# Altium schematic symbol library Passives.SchLib: 3 symbols
Pins are listed as number, name and electrical type; pins without a type are passive.

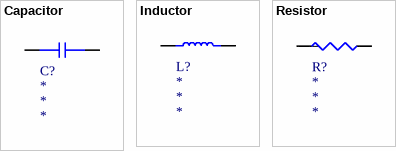
[diagram p0: symbols Capacitor to Resistor]

## Capacitor
designator C?
Reference: *; Max Voltage: *; Technology: *; ComponentLink1Description: Vendor; ComponentLink1URL: *; ComponentLink2Description: Datasheet; ComponentLink2URL: *; Package: *; Capacity: *; Tolerance: *
footprint 2512_Y
footprint 2010_Y
footprint 1210_Y
footprint 1206_Y
footprint 01005_Y
footprint 0805_Y
footprint 0603_Y
footprint 0402_Y
footprint 0201_Y
pins: A, B

## Inductor
designator L?
Reference: *; Max Voltage: *; Technology: *; ComponentLink1Description: Vendor; ComponentLink1URL: *; ComponentLink2Description: Datasheet; ComponentLink2URL: *; Package: *; Capacity: *; Tolerance: *
footprint 01005_G
footprint 0201_G
footprint 0402_G
footprint 0603_G
footprint 0805_G
footprint 1206_G
footprint 1210_G
footprint 2010_G
footprint 2512_G
pins: A, B

## Resistor
designator R?
Tempco: *; Reference: *; Max Voltage: *; Max Power: *; Technology: *; ComponentLink1Description: Vendor; ComponentLink1URL: *; ComponentLink2Description: Datasheet; ComponentLink2URL: *; Package: *; Resistance: *; Tolerance: *
footprint 01005_B
footprint 0201_B
footprint 0402_B
footprint 0603_B
footprint 0805_B
footprint 2512_B
footprint 2010_B
footprint 1210_B
footprint 1206_B
pins: A, B